# EAGLE library part AD8343 (library mixers-analogdevices)
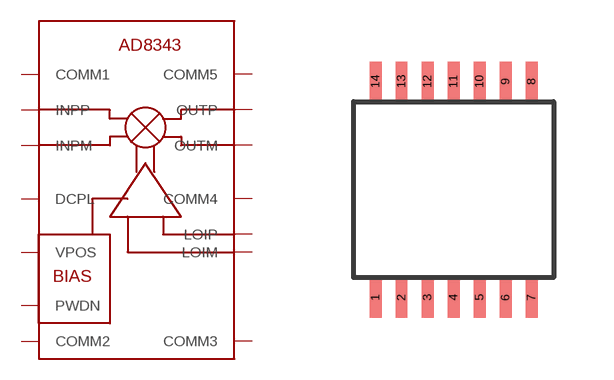
[diagram p0: symbol with the pads of TSSOP-14; footprint TSSOP-14]

Designator prefix -

## AD8343  [TSSOP-14]
1  COMM1
2  INPP
3  INPM
4  DCPL
5  VPOS
6  PWDN
7  COMM2
8  COMM3
9  LOIM
10  LOIP
11  COMM4
12  OUTM
13  OUTP
14  COMM5

## Footprint TSSOP-14 (pad centres in mm)
smd 0.3 x 1: 1 -1.95,-2.7; 2 -1.3,-2.7; 3 -0.65,-2.7; 4 0,-2.7; 5 0.65,-2.7; 6 1.3,-2.7; 7 1.95,-2.7; 8 1.95,2.7; 9 1.3,2.7; 10 0.65,2.7; 11 0,2.7; 12 -0.65,2.7; 13 -1.3,2.7; 14 -1.95,2.7